# Altium schematic symbol library DeSCENTActive.SchLib: 24 symbols
Pins are listed as number, name and electrical type; pins without a type are passive.

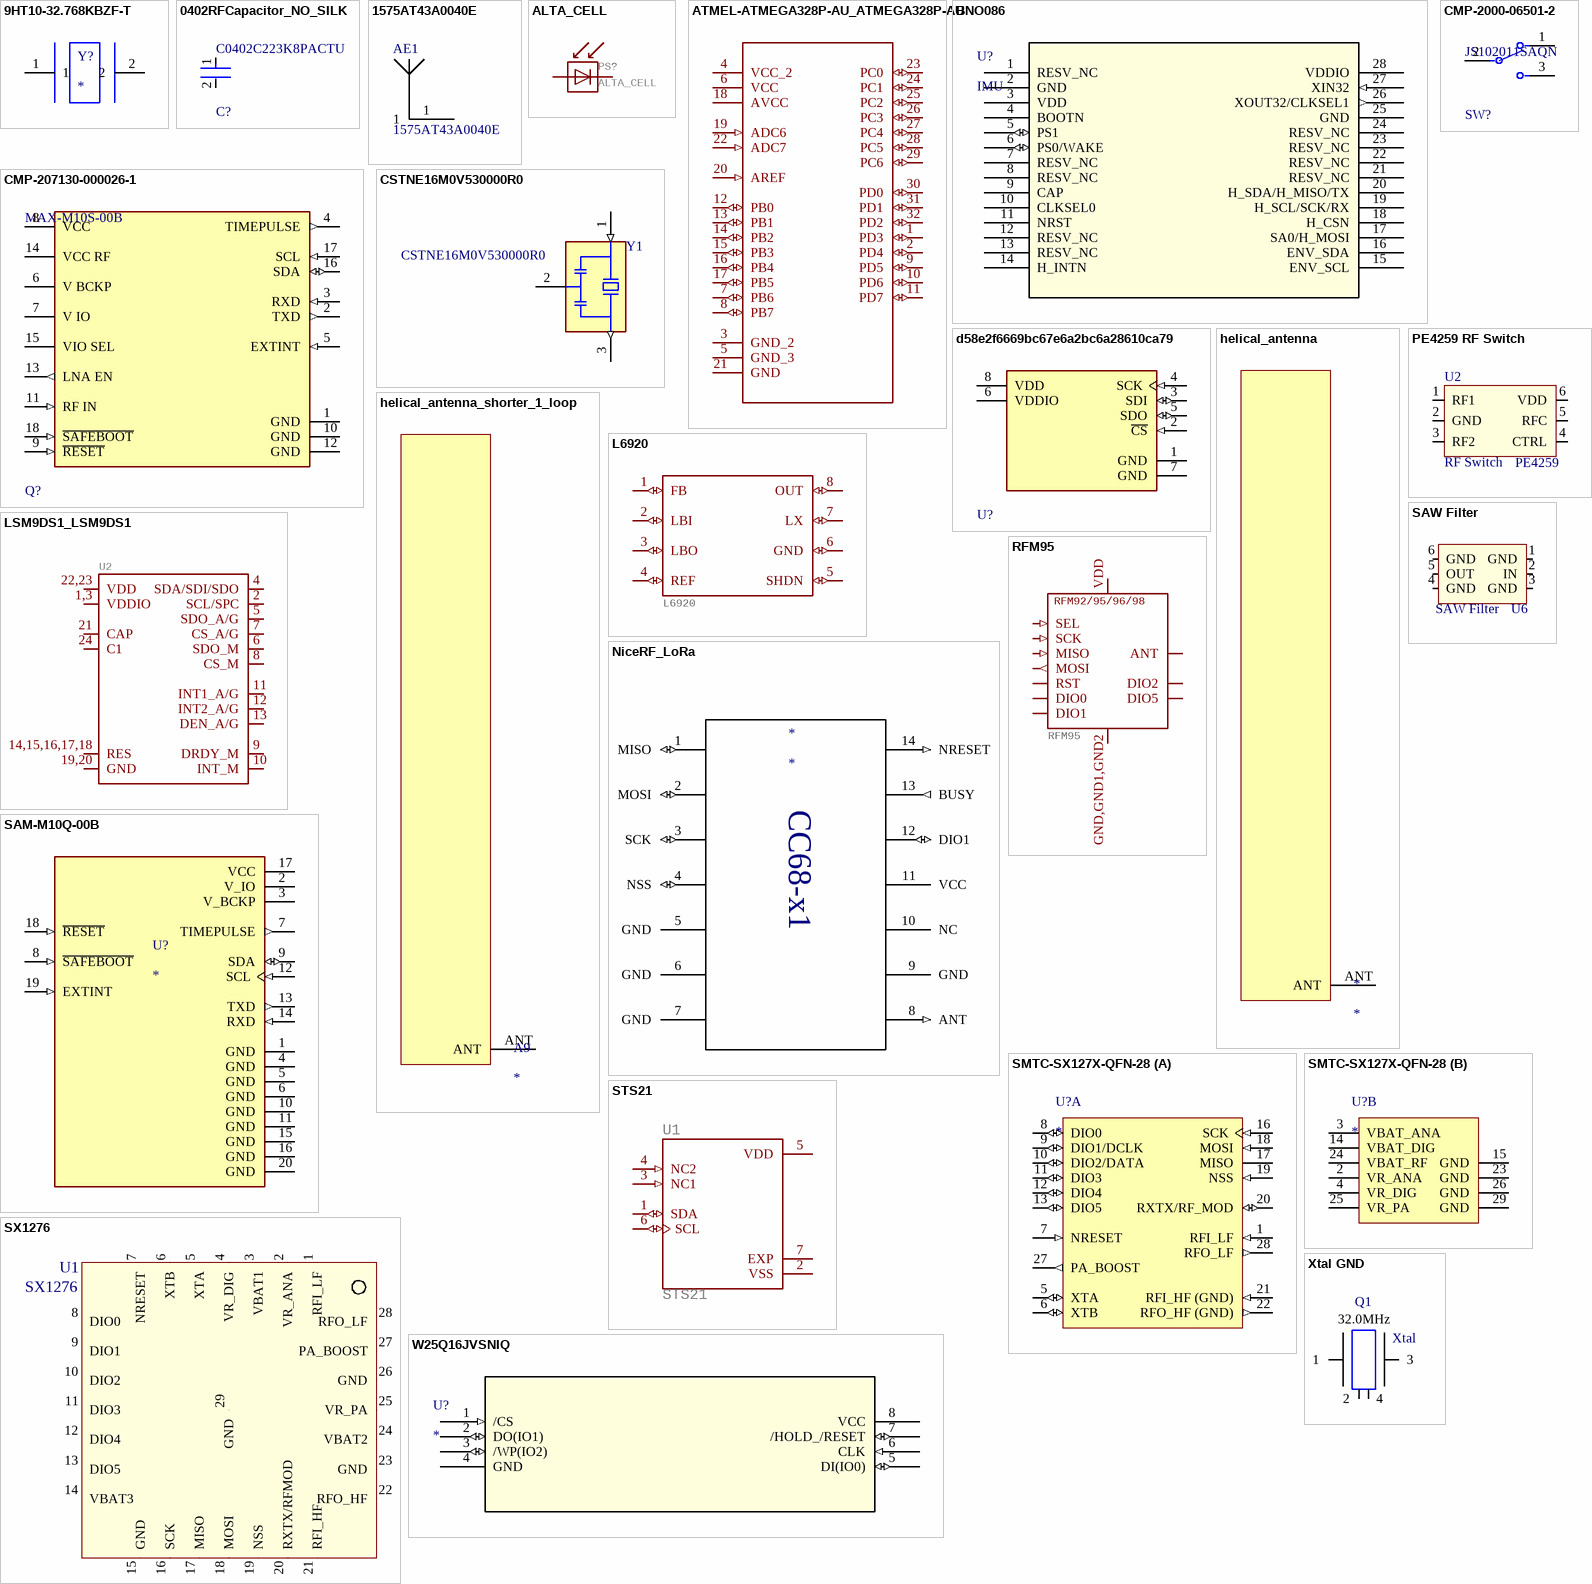
[diagram p0: symbols 9HT10-32.768KBZF-T to Xtal GND]

## 9HT10-32.768KBZF-T
designator Y?
32.768 kHz Â±50ppm Crystal 12.5pF 70 kOhms 2-SMD, No Lead; MF: TXC; MP: 9HT10-32.768KBZF-T; SnapEDA_Link: https://www.snapeda.com/parts/9HT10-32.768KBZF-T/TXC/view-part/?ref=snap; Package: SMD-2 TXC Corporation; Value: *; Check_prices: https://www.snapeda.com/parts/9HT10-32.768KBZF-T/TXC/view-part/?ref=eda; ComponentLink1Description: New link; ComponentLink1URL: *
footprint XTAL_9HT10_TXC
pins: 1, 2

## 0402RFCapacitor_NO_SILK
designator C?, comment C0402C223K8PACTU
CAP CER 0.022UF 10V X5R 0402; Manufacturer: Kemet; Capacitance: 22,000 pF; Value: 22,000 pF; Temperature Coefficient: 15%; Material: Ceramic; Tolerance: 0.1; RoHS: TRUE; Octopart: https://octopart.com/c0402c223k8pactu-kemet-140074; Category: Cap; Manufacturer Part Number: C0402C223K8PACTU; Lead Free: Yes; Automotive: No; Height: 0.55mm; Ipc Land Pattern Name: CAPC10050X50; ComponentLink2URL: https://content.kemet.com/datasheets/KEM_C1002_X7R_SMD.pdf; Device Class L2: Capacitors; Temperature Range Low: -55°C; ComponentLink2Description: Datasheet; Mouser Description: Multilayer Ceramic Capacitors MLCC - SMD/SMT 10volts 22000pF X5R 10%; Voltage Rating: 10 V; Device Class L3: Ceramic Capacitors; Package: C0402-BB; Digikey Description: CAP CER 0.022UF 10V X5R 0402; Temperature Characteristic: X5R; Temperature: -55°C to +125°C; Device Class L1: Passive Components; Temperature Range High: +125°C
footprint PI_NET_CAPACITOR_0402NO_EXPANSION (Chip Capacitor, Body 1.0x0.5mm, Height 0.6mm, NO SILK)
pins: 1, 2

## 1575AT43A0040E
designator AE1
No Description Available; Mfr_Name: Johanson Technology; Digi-Key_Part_Number_3: 712-1003-6-ND; Digi-Key_Part_Number_2: 712-1003-1-ND; Digi-Key_Part_Number_1: 712-1003-2-ND
footprint ANT_1575AT_JOT-L
pins: 1, 1

## ALTA_CELL
designator PS?
GateName_1: G$1; SymbolName_1: ALTA_CELL; LibraryName: ALTA_CELL; DeviceSetName: ALTA_CELL
footprint ALTA_CELL_ALTA_CELL
footprint ALTA_CELL_SAME_SIZED_FEET (SAME SIZED FEET AND CORRECT POLARITY)
pins: +, -

## ATMEL-ATMEGA328P-AU_ATMEGA328P-AU
designator U?
MPN: ATMEGA328P-AU; GateName_1: A; SymbolName_1: ATMEL-ATMEGA328P-AU_ATMEGA328P-AU; LibraryName: AmbaSat-1v1-01-NO-solar; DeviceSetName: ATMEL-ATMEGA328P-AU_ATMEGA328P-AU; Package: ATMEL-ATMEGA328P-AU_QFP80P900X900X120-32N; OC_FARNELL: 1715486; OC_NEWARK: 14R4631; PACKAGE: TQFP-32; SUPPLIER: Atmel
footprint ATMEL-ATMEGA328P-AU_QFP80P900X900X120-32N
pins: 1 PD3 (io), 2 PD4 (io), 3 GND_2, 4 VCC_2 (power), 5 GND_3, 6 VCC (power), 7 PB6 (io), 8 PB7 (io), 9 PD5 (io), 10 PD6 (io), 11 PD7 (io), 12 PB0 (io), 13 PB1 (io), 14 PB2 (io), 15 PB3 (io), 16 PB4 (io), 17 PB5 (io), 18 AVCC (power), 19 ADC6 (in), 20 AREF (in), 21 GND, 22 ADC7 (in), 23 PC0 (io), 24 PC1 (io), 25 PC2 (io), 26 PC3 (io), 27 PC4 (io), 28 PC5 (io), 29 PC6 (io), 30 PD0 (io), 31 PD1 (io), 32 PD2 (io)

## BNO086
designator U?, comment IMU
No Description Available; Mfr_Name: CEVA; Type: Motion Sensors; RefDes: RefDes
footprint QFN28_BNO086_CEV
pins: 1 RESV_NC, 2 GND (power), 3 VDD (power), 4 BOOTN, 5 PS1 (io), 6 PS0/WAKE (io), 7 RESV_NC, 8 RESV_NC, 9 CAP, 10 CLKSEL0, 11 NRST, 12 RESV_NC, 13 RESV_NC, 14 H_INTN, 15 ENV_SCL, 16 ENV_SDA, 17 SA0/H_MOSI, 18 H_CSN, 19 H_SCL/SCK/RX, 20 H_SDA/H_MISO/TX, 21 RESV_NC, 22 RESV_NC, 23 RESV_NC, 24 RESV_NC, 25 GND (power), 26 XOUT32/CLKSEL1 (out), 27 XIN32 (in), 28 VDDIO (power)

## CMP-2000-06501-2
designator SW?, comment JS102011SAQN
SWITCH SLIDE SPDT 300MA 6V; Switch Function: On-On; Illumination Type: Non-Illuminated; Switch Travel: 2mm; Contact Resistance: 70mR; Actuator Material: Nylon; Electrical Life: 5000Cycles; Actuator Type: Standard; Max Operating Temperature: 85°C; Housing Material: Nylon; Radiation Hardening: No; Max Voltage Rating (DC): 6V; Package Quantity: 1; Case/Package: 100; Actuator Length: 2mm; Min Operating Temperature: -40°C; Contact Current Rating: 300mA; REACH SVHC: No SVHC; Throw Configuration: SPDT; Packaging: Tape and Reel; Contact Material: Copper Alloy; Max Current Rating: 300mA; Current Rating: 300mA; Mount: Surface Mount; Lead Free: Lead Free; Termination: Gull Wing; Voltage Rating (DC): 6V; Length: 9mm; Orientation: Right Angle; Contact Plating: Silver
footprint FP-JS102011SAQN-MFG
pins: 1, 2 C, 3

## CMP-207130-000026-1
designator Q?, comment MAX-M10S-00B
GNSS LCC RX, ROM, TCXO, LNA, SAW
footprint FP-MAX-M10S-00B-MFG - duplicate
pins: 1 GND (power), 2 TXD (out), 3 RXD (in), 4 TIMEPULSE (out), 5 EXTINT (in), 6 V BCKP (power), 7 V IO (power), 8 VCC (power), 9 ~{RESET} (in), 10 GND (power), 11 RF IN (in), 12 GND (power), 13 LNA EN (out), 14 VCC RF (power), 15 VIO SEL (power), 16 SDA (io), 17 SCL (in), 18 ~{SAFEBOOT} (in)

## CSTNE16M0V530000R0
designator Y1
16MHz Ceramic Resonator Built in Capacitor 15pF Â±0.15% 40 Ohms -40Â°C ~ 125Â°C Surface Mount; MF: {'manufacturer': u'Murata Electronics'}; Value: *; Availability: Unavailable; MP: CSTNE16M0V530000R0; Price: None; Package: None
footprint OSC_CSTNE16M0V530000R0
pins: 1 IN (in), 2 GND (power), 3 OUT (out)

## d58e2f6669bc67e6a2bc6a28610ca79
designator U?  (value not drawn)
Temp and huminity sensor
footprint FP-BME280-MFG
pins: 1 GND (power), 2 ~{CS} (in), 3 SDI (io), 4 SCK (in), 5 SDO (io), 6 VDDIO (power), 7 GND (power), 8 VDD (power)

## helical_antenna
designator *
helical_antenna schematic for the DeSCENT v1 ChipSat
footprint PCBComponent_1
pins: ANT

## helical_antenna_shorter_1_loop
designator A9
helical_antenna schematic for the DeSCENT v1 ChipSat
footprint LoRa_ANT_915_shorter_1_loop
pins: ANT

## L6920
designator U3
Voltage stepper upper L6920DTR model; GateName_1: G$1; SymbolName_1: L6920; LibraryName: L6920; DeviceSetName: L6920
footprint L6920_L6920
pins: 1 FB (io), 2 LBI (io), 3 LBO (io), 4 REF (io), 5 SHDN (io), 6 GND (io), 7 LX (io), 8 OUT (io)

## LSM9DS1_LSM9DS1
designator U2, comment IMU  (value not drawn)
LSM9DS1 3D accelerometer, gyroscope & magnetometer    The LSM9DS1 is a system-in-package featuring a 3D digital linear acceleration sensor, a 3D digital angular rate sensor, and a 3D digital magnetic sensor.   The LSM9DS1 has a linear acceleration full scale of Â±2g/Â±4g/Â±8/Â±16 g, a magnetic field full scale of Â±4/Â±8/Â±12/Â±16 gauss and an angular rate of Â±245/Â±500/Â±2000 dps.   The LSM9DS1 includes an I2 C serial bus interface supporting standard and fast mode (100 kHz and 400 kHz) and an SPI serial standard interface.   Magnetic, accelerometer and gyroscope sensing can be enabled or set in power-down mode separately for smart power management.   The LSM9DS1 is available in a plastic land grid array package (LGA) and it is guaranteed to operate over an extended temperature range from -40 Â°C to +85 Â°C.; GateName_1: G$1; SymbolName_1: LSM9DS1_LSM9DS1; PROD_ID: IC-12536; LibraryName: AmbaSat-1v1-01-NO-solar; DeviceSetName: LSM9DS1_LSM9DS1; Package: LSM9DS1_LGA24-8X4
footprint LSM9DS1_LGA24-8X4
pins: 1,3 VDDIO (io), 2 SCL/SPC (io), 4 SDA/SDI/SDO (io), 5 SDO_A/G (io), 6 SDO_M (io), 7 CS_A/G (io), 8 CS_M (io), 9 DRDY_M (io), 10 INT_M (io), 11 INT1_A/G (io), 12 INT2_A/G (io), 13 DEN_A/G (io), 14,15,16,17,18 RES (io), 19,20 GND (io), 21 CAP (io), 22,23 VDD (io), 24 C1 (io)

## NiceRF_LoRa
designator *
footprint CC68-X1 (CC68-X1 14 Pin LoRa Module)
pins: 1 MISO (io), 2 MOSI (io), 3 SCK (io), 4 NSS (io), 5 GND (power), 6 GND (power), 7 GND, 8 ANT (in) "50Ohm Antenna connection", 9 GND (power), 10 NC "no connection", 11 VCC (power), 12 DIO1 (io) "Customizable for signal ready interrupt", 13 BUSY (out) "Busy detection pin", 14 NRESET (in)
text: CC68-x1

## PE4259 RF Switch
designator U2, comment RF Switch  value PE4259
PE4259 Peregrine RF Switch; LatestRevisionDate: 03-Sep-2012 -  Semtech
footprint SC70-6 (SC70 6-Leads, Body 2.0x1.25mm, Pitch 0.65mm)
pins: 1 RF1, 2 GND, 3 RF2, 4 CTRL, 5 RFC, 6 VDD

## RFM95
designator U5
LoRa chip; GateName_1: G$1; SymbolName_1: RFM95; LibraryName: _c2h; DeviceSetName: RFM95; RFM92/95/96/98: RFM92/95/96/98
footprint _C2H_RFM95; pin to pad GND,GND1,GND2>GND+GND1+GND2
pins: ANT, DIO0 (oc), DIO1 (oc), DIO2 (oc), DIO5 (oc), GND,GND1,GND2 GND (power), MISO (in), MOSI (out), NSS SEL (in), RST (oc), SCK (in), VDD VCC (power)

## SAM-M10Q-00B
designator U?
- RF Receiver Galileo, GLONASS, GPS 1.575GHz, 1.602GHz -165dBm 400kbps On-Board, Patch Module; MP: SAM-M10Q-00B; MF: u-blox; SnapEDA_Link: https://www.snapeda.com/parts/SAM-M10Q-00B/u-blox/view-part/?ref=snap; Purchase-URL: https://pricing.snapeda.com/search/part/SAM-M10Q-00B/?ref=eda; Check_prices: https://www.snapeda.com/parts/SAM-M10Q-00B/u-blox/view-part/?ref=eda; Availability: In Stock; Package: None; Price: None; Value: *
footprint XCVR_SAM-M10Q-00B
pins: 1 GND (power), 2 V_IO (power), 3 V_BCKP (power), 4 GND (power), 5 GND (power), 6 GND (power), 7 TIMEPULSE (out), 8 ~{SAFEBOOT} (in), 9 SDA (io), 10 GND (power), 11 GND (power), 12 SCL (in), 13 TXD (out), 14 RXD (in), 15 GND (power), 16 GND (power), 17 VCC (power), 18 ~{RESET} (in), 19 EXTINT (in), 20 GND (power)

## SAW Filter
designator U6
SAW Filter - Bandpass - TEMEX type; LatestRevisionDate: 05-oct-2007  -  Semtech
footprint sc44_3.8x3.8mm (sc44 footprint, 3.8x3.8mm)
footprint DCC6C_3.0x3.0mm (DCC6C footprint, 3.0x3.0mm)
pins: 1 GND, 2 IN, 3 GND, 4 GND, 5 OUT, 6 GND

## SMTC-SX127X-QFN-28
designator U?
part A pins: 1 RFI_LF (in) "RF input for bands 2&3", 5 XTA (io) "XTAL connection or TCXO input", 6 XTB (io) "XTAL connection", 7 NRESET (in) "Reset trigger input", 8 DIO0 (io) "Digital I/O, software configured", 9 DIO1/DCLK (io) "Digital I/O, software configured", 10 DIO2/DATA (io) "Digital I/O, software configured", 11 DIO3 (io) "Digital I/O, software configured", 12 DIO4 (io) "Digital I/O, software configured", 13 DIO5 (io) "Digital I/O, software configured", 16 SCK (in) "SPI Clock input", 17 MISO (hiz) "SPI Data output", 18 MOSI (in) "SPI Data input", 19 NSS (in) "SPI Chip select input", 20 RXTX/RF_MOD (io) "Rx/Tx switch control: high in Tx", 21 RFI_HF (GND) (in) "RF input for band 1 (Ground)", 22 RFO_HF (GND) (out) "RF output for band 1 (Ground)", 27 PA_BOOST (out) "Optional high-power PA output, all frequency bands", 28 RFO_LF (out) "RF output for bands 2&3"
part B pins: 2 VR_ANA (power) "Regulated supply voltage for analogue circuitry", 3 VBAT_ANA (power) "Supply voltage for analogue circuitry", 4 VR_DIG (power) "Regulated supply voltage for digital blocks", 14 VBAT_DIG (power) "Supply voltage for digital blocks", 15 GND (power) "Ground", 23 GND (power) "Ground", 24 VBAT_RF (power) "Supply voltage for RF blocks", 25 VR_PA (power) "Regulated supply for the PA", 26 GND (power) "Ground", 29 GND (power) "Exposed ground pad"

## STS21
designator U1
Temperature Sensor Digital, Local -40Â°C ~ 125Â°C 14 b 6-DFN (3x3)SENSOR DIGITAL -40C-125C 6DFN; GateName_1: G$1; SymbolName_1: STS21; LibraryName: STS21; DeviceSetName: STS21; DIGIKEY-PN: 1649-1016-1-ND
footprint XDCR_SGP30-2.5K
pins: 1 SDA (io), 2 VSS, 3 NC1 (in), 4 NC2 (in), 5 VDD (power), 6 SCL (io), 7 EXP

## SX1276
designator U1
SX1276 - Low Power Integrated UHF Transceiver with loRa Modem; LatestRevisionDate: 27-Jul-2009 -  Semtech
footprint vqfn28_6x6mm (28 Leads, Body 6.0x6.0mm, Pitch 0.65mm, VQFN28)
pins: 1 RFI_LF, 2 VR_ANA, 3 VBAT1, 4 VR_DIG, 5 XTA, 6 XTB, 7 NRESET, 8 DIO0, 9 DIO1, 10 DIO2, 11 DIO3, 12 DIO4, 13 DIO5, 14 VBAT3, 15 GND, 16 SCK, 17 MISO, 18 MOSI, 19 NSS, 20 RXTX/RFMOD, 21 RFI_HF, 22 RFO_HF, 23 GND, 24 VBAT2, 25 VR_PA, 26 GND, 27 PA_BOOST, 28 RFO_LF, 29 GND

## W25Q16JVSNIQ
designator U?
NOR Flash; Mfr_Name: Winbond; RefDes: RefDes; Type: Type
footprint SOIC_150MIL_WIN
pins: 1 /CS (in), 2 DO(IO1) (io), 3 /WP(IO2) (io), 4 GND (power), 5 DI(IO0) (io), 6 CLK (in), 7 /HOLD_/RESET (io), 8 VCC (power)

## Xtal GND
designator Q1, comment Xtal  value 32.0MHz
Crystal with GND pins; LatestRevisionDate: 05-oct-2007  -  Semtech
footprint nd2520da (Crystal SMD 2.5x2.0mm)
footprint nd2016da (Crystal SMD 2.0x1.6mm)
footprint nd3225da (Crystal SMD 3.2x2.5mm)
footprint nd5032da (Crystal SMD 5.0x3.2mm)
footprint nd6035da (Crystal SMD 6.0x3.5mm)
footprint nd7050da - enlarge (Crystal SMD 7.0x5.0mm - Enlarge Pads to be compatible with 3.2x2.5mm footprint)
footprint nd3225da - nd2520da (Crystal SMD 3.2x2.5mm compatible with 2.5x2.0mm)
pins: 1, 2, 3, 4